# EAGLE library part MPU9250 (library quadcopter_comp)
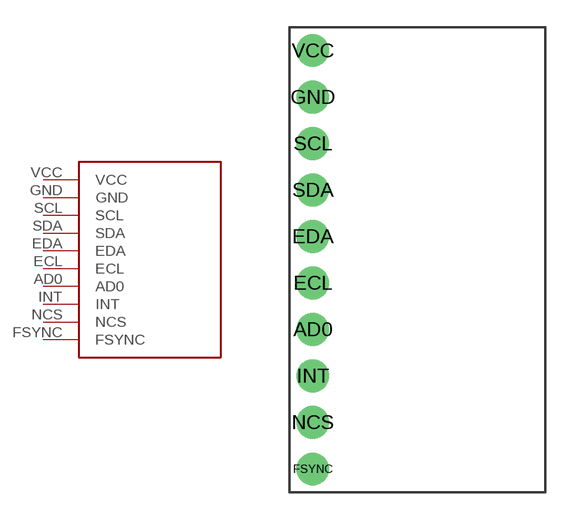
[diagram p2: symbol with the pads of MPU9250; footprint MPU9250]

Designator prefix -

## MPU9250  [MPU9250]
AD0  AD0
ECL  ECL
EDA  EDA
FSYNC  FSYNC
GND  GND
INT  INT
NCS  NCS
SCL  SCL
SDA  SDA
VCC  VCC

## Footprint MPU9250 (pad centres in mm)
drill 0.8 pad 1.778: AD0 -6.35,-3.81; ECL -6.35,-1.27; EDA -6.35,1.27; FSYNC -6.35,-11.43; GND -6.35,8.89; INT -6.35,-6.35; NCS -6.35,-8.89; SCL -6.35,6.35; SDA -6.35,3.81; VCC -6.35,11.43